# EAGLE library part 25LC040A (library MyComponents)
4K SPI Bus Serial EEPROM
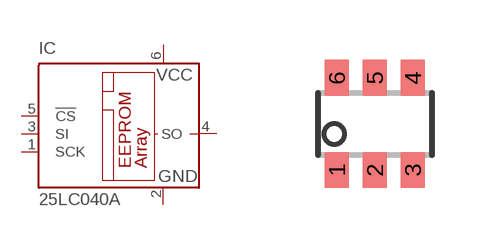
[diagram p27: symbol with the pads of SOT23-6; footprint SOT23-6]

Designator prefix IC

## 25LC040A (MOUSER: 579-25LC040AT-E/OT)  [SOT23-6]
1  SCK  in
2  GND  pwr
3  SI  in
4  SO
5  !CS  in
6  VCC  pwr

## Footprint SOT23-6 (pad centres in mm)
Small Outline Transistor 6 lead
smd 0.6 x 0.9: 1 -0.95,-1.15; 2 0,-1.15; 3 0.95,-1.15; 4 0.95,1.15; 5 0,1.15; 6 -0.95,1.15